# EAGLE library part L3GD20TR (library Strutz Electronic Industries)
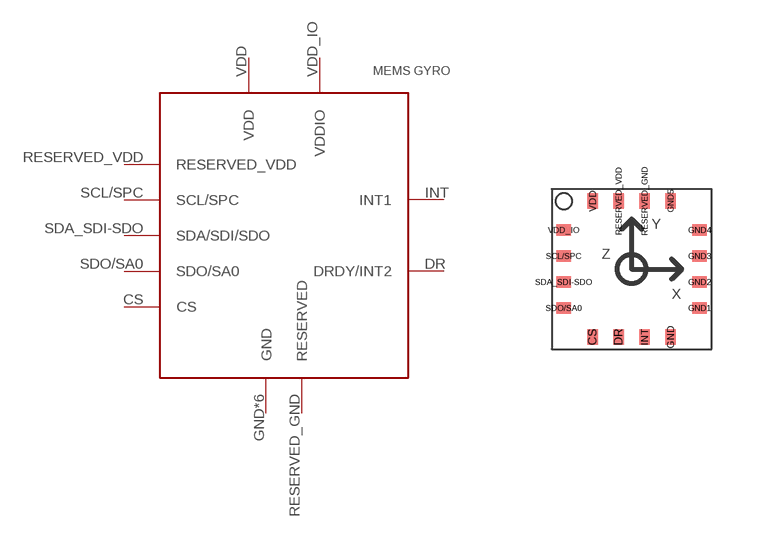
[diagram p1: symbol with the pads of L3GD20TR; footprint L3GD20TR]

Designator prefix -

## L3GD20TRLGA-16  [L3GD20TR]
CS  CS
DR  DRDY/INT2
GND  GND
GND1  GND
GND2  GND
GND3  GND
GND4  GND
GND5  GND
INT  INT1
RESERVED_GND  RESERVED
RESERVED_VDD  RESERVED_VDD
SCL/SPC  SCL/SPC
SDA_SDI-SDO  SDA/SDI/SDO
SDO/SA0  SDO/SA0
VDD  VDD
VDD_IO  VDDIO

## Footprint L3GD20TR (pad centres in mm)
smd 0.3 x 0.4: CS -0.975,-1.7; DR -0.325,-1.7; GND 0.975,-1.7; GND5 0.975,1.7; INT 0.325,-1.7; RESERVED_GND 0.325,1.7; RESERVED_VDD -0.325,1.7; VDD -0.975,1.7
smd 0.4 x 0.3: GND1 1.7,-0.975; GND2 1.7,-0.325; GND3 1.7,0.325; GND4 1.7,0.975; SCL/SPC -1.7,0.325; SDA_SDI-SDO -1.7,-0.325; SDO/SA0 -1.7,-0.975; VDD_IO -1.7,0.975